# EAGLE library part OPA234* (library parts)
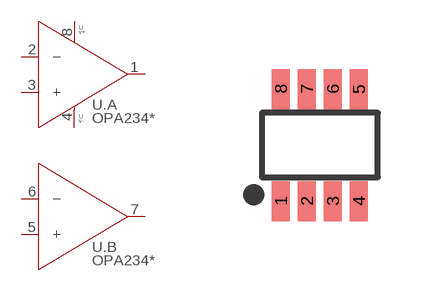
[diagram p12: symbol with the pads of SOT-23-8; footprint SOT-23-8]

Designator prefix U; gates .A=OPAMP-1 .=OPAMP-PWR .B=OPAMP-1

## OPA2347DCN, OPA2348DCN  [SOT-23-8]
1  .A:OUT  out
2  .A:-  pas
3  .A:+  pas
4  .:V-  pwr
5  .B:+  pas
6  .B:-  pas
7  .B:OUT  out
8  .:V+  pwr

## Footprint SOT-23-8 (pad centres in mm)
smd 0.45 x 1: 1 -0.975,-1.4; 2 -0.325,-1.4; 3 0.325,-1.4; 4 0.975,-1.4; 5 0.975,1.4; 6 0.325,1.4; 7 -0.325,1.4; 8 -0.975,1.4